# EAGLE library part RF,VCO&PLL(ADF4351) (library QuantumOptics)
VCO & PLL module, 35-4400MHz, Analog Device's ADF4351
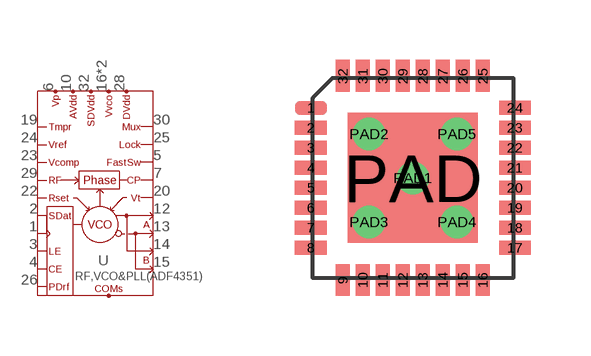
[diagram p215: symbol with the pads of LFCSP-32; footprint LFCSP-32]

Designator prefix U

## RF,VCO&PLL(ADF4351)-LFCSP32  [LFCSP-32]
1  CLK  in
2  DAT  in
3  LE  in
4  CE  in
5  FAST_SW  out
6  VP
7  CP  out
8  COMS
9  COMS
10  AVDD
11  COMS
12  RF-A  out
13  !RF-A  out
14  RF-B  out
15  !RF-B  out
16  VVCO
17  VVCO
18  COMS
19  TEMP  in
20  VTUNE  in
21  COMS
22  RSET  in
23  VCMP  in
24  VREF  in
25  LOCK_DET  out
26  PDBREF  in
27  COMS
28  DVDD
29  REF_IN  in
30  MUX  out
31  COMS
32  SDVDD
PAD  COMS
PAD1  COMS
PAD2  COMS
PAD3  COMS
PAD4  COMS
PAD5  COMS

## Footprint LFCSP-32 (pad centres in mm)
LFCSP-32, Lead Frame Chip Scale Package per Jedec MO-22-VHHD-2, from Analog Devices CP-32-2
smd 0.8 x 0.35: 1 -2.55,1.75; 2 -2.55,1.25; 3 -2.55,0.75; 4 -2.55,0.25; 5 -2.55,-0.25; 6 -2.55,-0.75; 7 -2.55,-1.25; 8 -2.55,-1.75; 17 2.55,-1.75; 18 2.55,-1.25; 19 2.55,-0.75; 20 2.55,-0.25; 21 2.55,0.25; 22 2.55,0.75; 23 2.55,1.25; 24 2.55,1.75
smd 0.35 x 0.8: 9 -1.75,-2.55; 10 -1.25,-2.55; 11 -0.75,-2.55; 12 -0.25,-2.55; 13 0.25,-2.55; 14 0.75,-2.55; 15 1.25,-2.55; 16 1.75,-2.55; 25 1.75,2.55; 26 1.25,2.55; 27 0.75,2.55; 28 0.25,2.55; 29 -0.25,2.55; 30 -0.75,2.55; 31 -1.25,2.55; 32 -1.75,2.55
smd 3.25 x 3.25: PAD 0,0
drill 0.3: PAD1 0,0; PAD2 -1.1,1.1; PAD3 -1.1,-1.1; PAD4 1.1,-1.1; PAD5 1.1,1.1